# Altium footprint library MSOP10.PcbLib: 1 footprints
Each footprint in its own frame and in the unit in brackets; x right, y up, seen from the top. Pads: shape width x height; smd on the part's side, far side on the other; paste and mask are expansions set on the pad; w line width, h text height; cw(c..) or ccw(c..) is an arc to the next point about the centre after c.
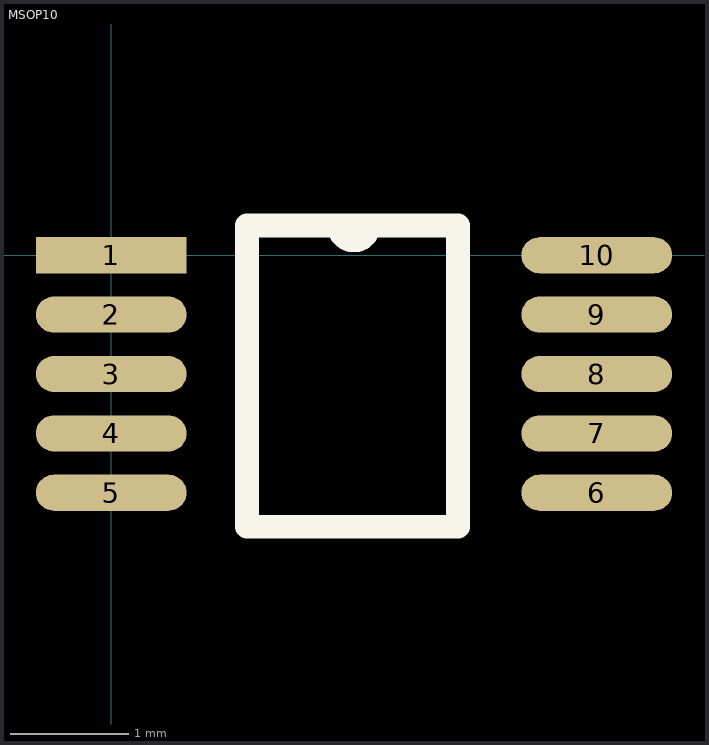
[diagram p0: the footprint, top view; thin cyan lines are the x and y axes]

## MSOP10 [mm]
pads (10):
  rect 1.27x0.305 smd: 1(0,0)
  oval 1.27x0.305 smd: 2(0,-0.5) 3(0,-1) 4(0,-1.5) 5(0,-2) 6(4.089,-2) 7(4.089,-1.5) 8(4.089,-1) 9(4.089,-0.5) 10(4.089,0)
Top Overlay:
  lines w0.2: 1.892,0.25 1.143,0.25 1.143,-2.286 2.921,-2.286 2.921,0.25 1.939,0.25 ; 1.918,0.25 ccw(c2.043,0.25) 2.168,0.25
3D body: height 1.15, standoff 0, extent -0.392,-2.517 4.508,0.483